# EAGLE library part SSW-116-02-S-Q (library con-samtec)
THROUGH-HOLE .025" SQ POST SOCKET Source: Samtec SSW.pdf
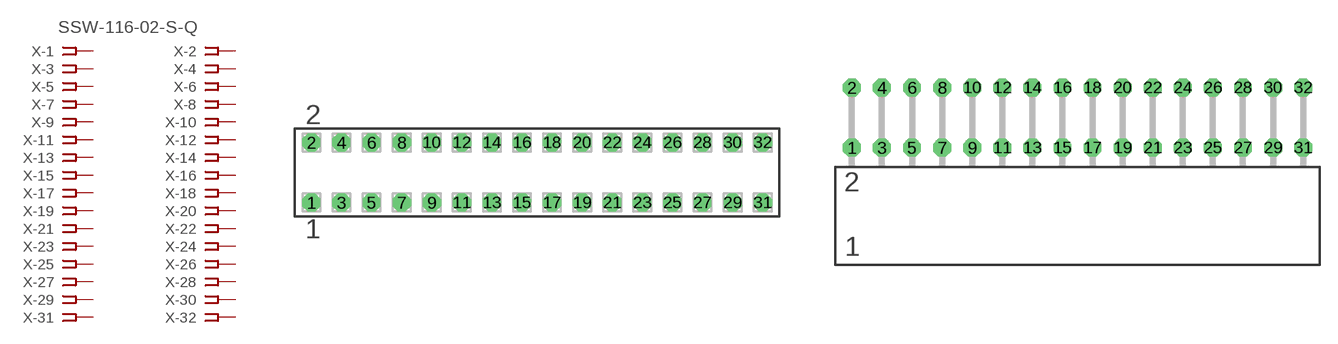
[diagram p132: symbol with the pads of SSW-116-02-S-Q; footprints SSW-116-02-S-Q, SSW-116-02-S-Q-RA]

Designator prefix X; gates -1=FPINV -2=FPIN -3=FPIN -4=FPIN -5=FPIN -6=FPIN -7=FPIN -8=FPIN -9=FPIN -10=FPIN -11=FPIN -12=FPIN -13=FPIN -14=FPIN -15=FPIN -16=FPIN -17=FPIN -18=FPIN -19=FPIN -20=FPIN -21=FPIN -22=FPIN -23=FPIN -24=FPIN -25=FPIN -26=FPIN -27=FPIN -28=FPIN -29=FPIN -30=FPIN -31=FPIN -32=FPIN

## SSW-116-02-S-Q (OC_FARNELL: unknown; OC_NEWARK: unknown)  [SSW-116-02-S-Q]
1  -1:1  pas
2  -2:1  pas
3  -3:1  pas
4  -4:1  pas
5  -5:1  pas
6  -6:1  pas
7  -7:1  pas
8  -8:1  pas
9  -9:1  pas
10  -10:1  pas
11  -11:1  pas
12  -12:1  pas
13  -13:1  pas
14  -14:1  pas
15  -15:1  pas
16  -16:1  pas
17  -17:1  pas
18  -18:1  pas
19  -19:1  pas
20  -20:1  pas
21  -21:1  pas
22  -22:1  pas
23  -23:1  pas
24  -24:1  pas
25  -25:1  pas
26  -26:1  pas
27  -27:1  pas
28  -28:1  pas
29  -29:1  pas
30  -30:1  pas
31  -31:1  pas
32  -32:1  pas

## SSW-116-02-S-QRA (OC_FARNELL: unknown; OC_NEWARK: unknown)  [SSW-116-02-S-Q-RA]
Pads as for SSW-116-02-S-Q

## Footprint SSW-116-02-S-Q (pad centres in mm)
THROUGH-HOLE .025" SQ POST SOCKET Source: Samtec SSW.pdf
drill 1 pad 1.5 octagon: 1 -19.05,-2.54; 2 -19.05,2.54; 3 -16.51,-2.54; 4 -16.51,2.54; 5 -13.97,-2.54; 6 -13.97,2.54; 7 -11.43,-2.54; 8 -11.43,2.54; 9 -8.89,-2.54; 10 -8.89,2.54; 11 -6.35,-2.54; 12 -6.35,2.54; 13 -3.81,-2.54; 14 -3.81,2.54; 15 -1.27,-2.54; 16 -1.27,2.54; 17 1.27,-2.54; 18 1.27,2.54; 19 3.81,-2.54; 20 3.81,2.54; 21 6.35,-2.54; 22 6.35,2.54; 23 8.89,-2.54; 24 8.89,2.54; 25 11.43,-2.54; 26 11.43,2.54; 27 13.97,-2.54; 28 13.97,2.54; 29 16.51,-2.54; 30 16.51,2.54; 31 19.05,-2.54; 32 19.05,2.54

## Footprint SSW-116-02-S-Q-RA (pad centres in mm)
THROUGH-HOLE .025" SQ POST SOCKET Source: Samtec SSW.pdf
drill 1 pad 1.5 octagon: 1 -19.05,1.524; 2 -19.05,6.604; 3 -16.51,1.524; 4 -16.51,6.604; 5 -13.97,1.524; 6 -13.97,6.604; 7 -11.43,1.524; 8 -11.43,6.604; 9 -8.89,1.524; 10 -8.89,6.604; 11 -6.35,1.524; 12 -6.35,6.604; 13 -3.81,1.524; 14 -3.81,6.604; 15 -1.27,1.524; 16 -1.27,6.604; 17 1.27,1.524; 18 1.27,6.604; 19 3.81,1.524; 20 3.81,6.604; 21 6.35,1.524; 22 6.35,6.604; 23 8.89,1.524; 24 8.89,6.604; 25 11.43,1.524; 26 11.43,6.604; 27 13.97,1.524; 28 13.97,6.604; 29 16.51,1.524; 30 16.51,6.604; 31 19.05,1.524; 32 19.05,6.604